# EAGLE library part TKA30 (library dk30a)
30W DC-DC converter - regulated triple output Specifications can be viewed at http://computronics.com.au/meanwell/tka/
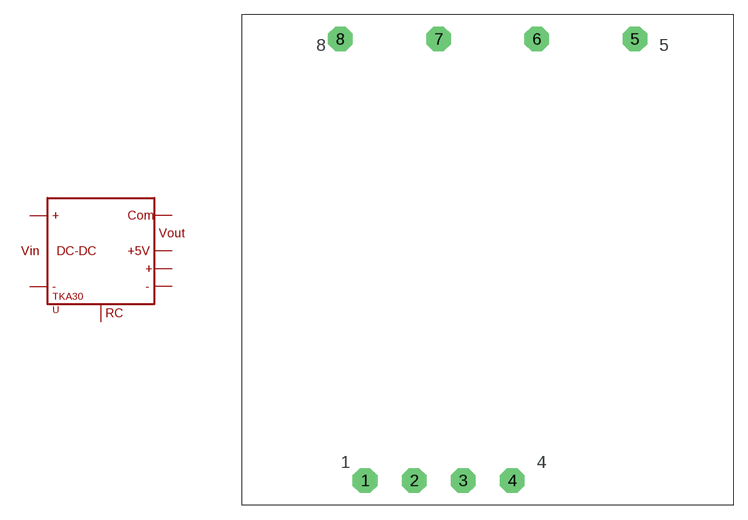
[diagram p9: symbol with the pads of DKA; footprint DKA]

Designator prefix -

## TKA30"  [DKA]
1  RC
3  -VIN  pwr
4  +VIN  pwr
5  +VOUT  pwr
6  +5V  pwr
7  COM  pwr
8  -VOUT  pwr

## Footprint DKA (pad centres in mm)
drill 1.27 pad 2.54 octagon: 1 -12.7,-22.86; 2 -7.62,-22.86; 3 -2.54,-22.86; 4 2.54,-22.86; 5 15.24,22.86; 6 5.08,22.86; 7 -5.08,22.86; 8 -15.24,22.86